# EAGLE library part 691321100006 (library Wuerth_Elektronik_eiCan_Terminal_Blocks_v2.0)
WR-TBL Serie 3211 - 3.50mm Vertical PCB Header , 6 Pins
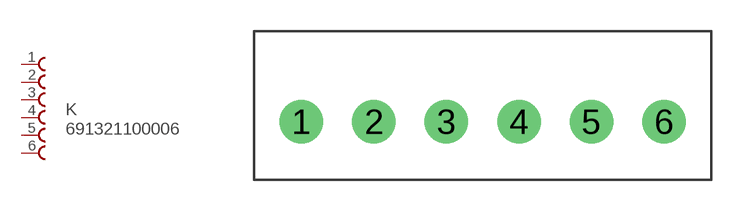
[diagram p11: symbol with the pads of 691321100006; footprint 691321100006]

Designator prefix K

## 691321100006  [691321100006]
1  1  pas
2  2  pas
3  3  pas
4  4  pas
5  5  pas
6  6  pas

## Footprint 691321100006 (pad centres in mm)
WR-TBL Serie 3211 - 3.50mm Vertical PCB Header , 6 Pins
drill 1.4 round: 1 -3.5,0; 2 0,0; 3 3.5,0; 4 7,0; 5 10.5,0; 6 14,0